# Altium footprint library EG_robot.PcbLib: 15 footprints
Each footprint in its own frame and in the unit in brackets; x right, y up, seen from the top. Pads: shape width x height; smd on the part's side, far side on the other; paste and mask are expansions set on the pad; w line width, h text height; cw(c..) or ccw(c..) is an arc to the next point about the centre after c.
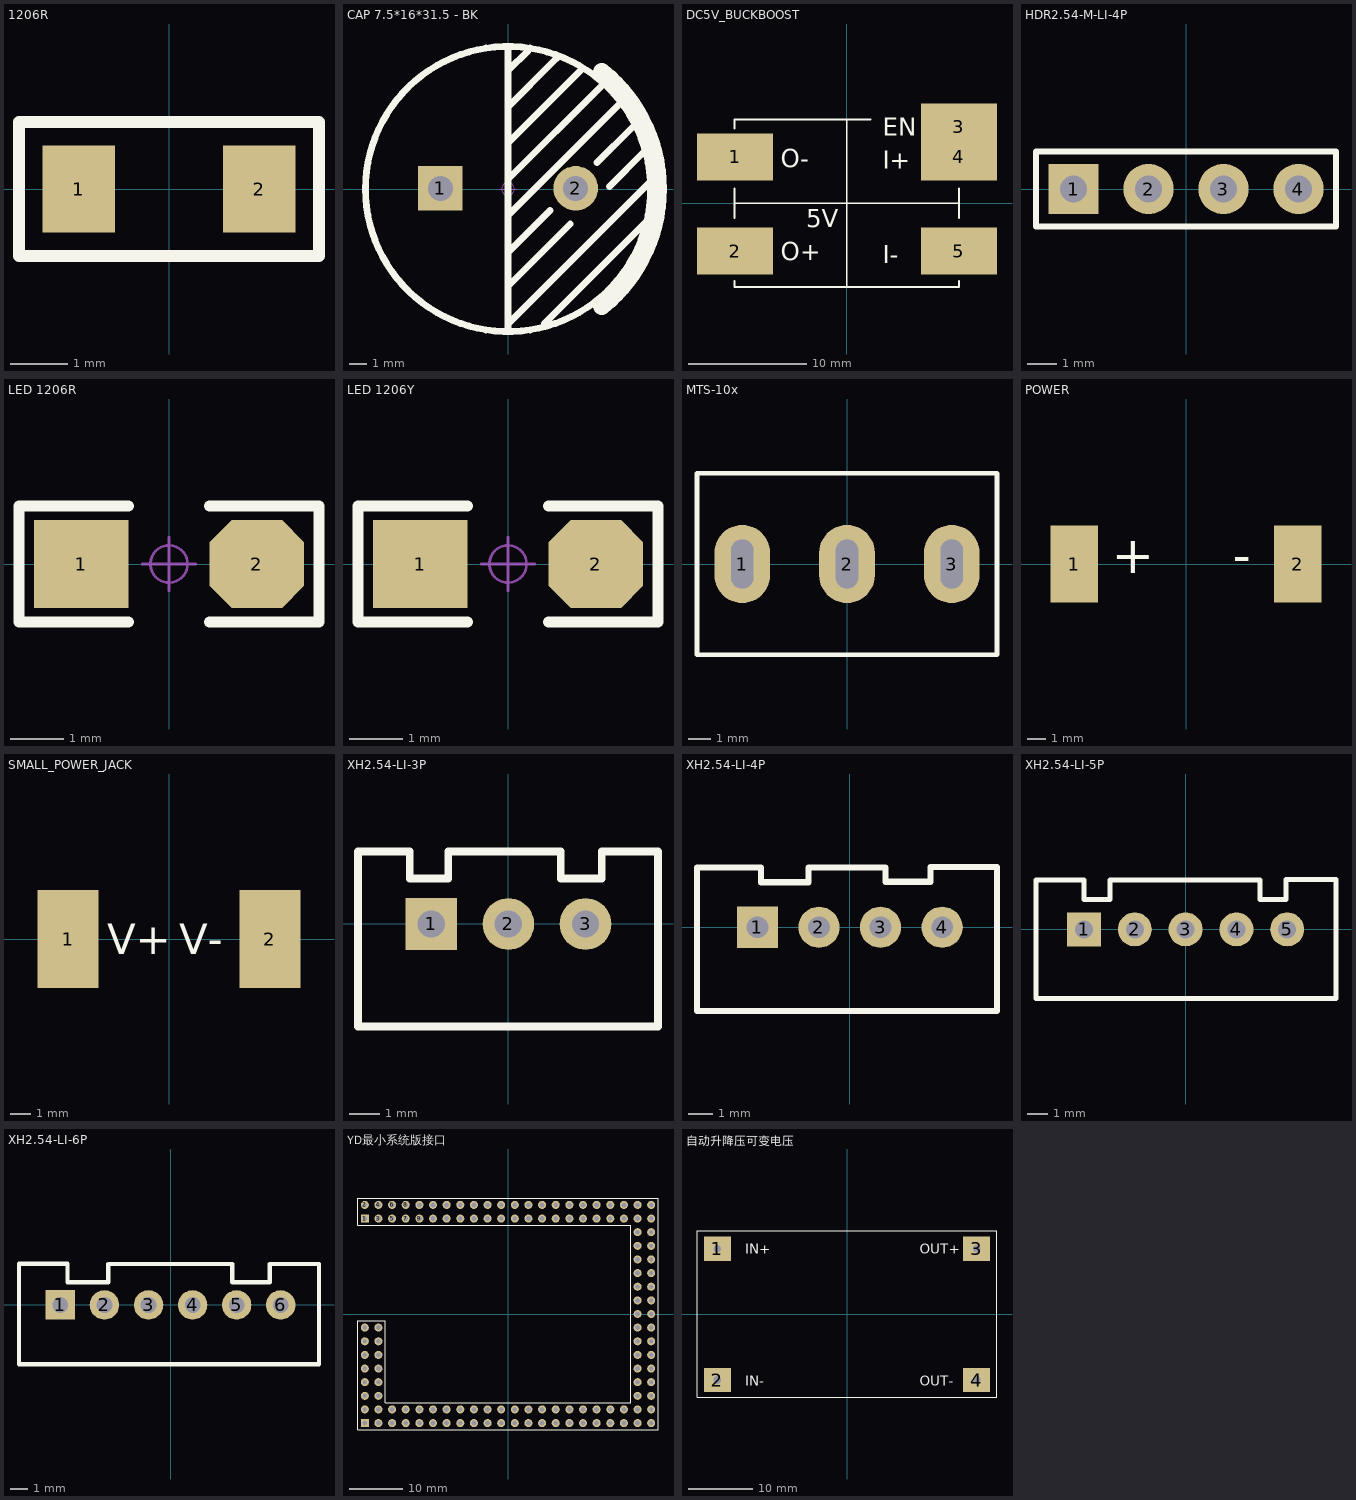
[diagram p0: the footprints below, top view; thin cyan lines are the x and y axes]

## 1206R [mil]
pads (2):
  rect 50x60 smd: 1(-62,0) 2(62,0)
Top Overlay:
  lines w8: -103,-46 40,-46 103,-46 103,46 40,46 -103,46 -103,-46
3D body "R1206.STEP": height 23.62, standoff 0, extent -63.98,-32.49 62,30.51

## CAP 7.5*16*31.5 - BK [mm] "脚距7.5mm直径16mm高度31.5mm"
pads (2):
  rect 2.5x2.5 hole 1.4: 1(-3.8,0.038)
  round 2.5 hole 1.4: 2(3.8,0.038)
Top Overlay:
  circle w0.381: c0,0 r8
  lines w0.381: 0,-7.963 0,7.963 ; 0,-7.582 8.001,0.419 ; 0,-3.556 2.349,-1.206 ; 0,-1.486 6.223,4.737 ; 0,0.546 5.296,5.842 ; 0,2.578 4.064,6.642 ; 0,4.61 2.54,7.15 2.769,7.379 ; 0,6.642 1.143,7.785 ; 0.127,-5.334 3.492,-1.968 ; 2.032,-7.582 6.604,-3.01 7.81,-1.803 ; 4.997,1.48 6.972,3.454 ; 5.696,0.146 7.62,2.07
  lines w1: 5.259,-6.574 ccw(c0,0) 5.259,6.574
Mechanical 15:
  circle w0.05: c0,0 r0.35
  lines w0.05: -0.5,0 0.5,0 ; 0,-0.5 0,0.5
3D body "CAP 7.5X16X31.5.STEP": height 31.54, standoff -3.37, extent -8,-7.998 8.01,7.998

## DC5V_BUCKBOOST [mm] "自动升降压稳压模块"
pads (5):
  rect 6.47x4 smd: 1(-9.475,3.936) 2(-9.475,-4.064) 3(9.525,6.476) 4(9.525,3.936) 5(9.525,-4.064)
Top Overlay:
  lines w0.152: -9.525,-6.604 -9.525,-7.112 0,-7.112 ; -9.525,-1.27 -9.525,0 ; -9.525,1.27 -9.525,0 ; -9.525,6.35 -9.525,7.112 0,7.112 ; 2.032,7.112 0,7.112 ; 9.525,-6.604 9.525,-7.112 0,-7.112 ; 9.525,-1.27 9.525,0 ; 9.525,1.27 9.525,0 ; -9.525,0 0,0 ; 0,-7.112 0,0 ; 0,0 9.525,0 ; 0,0 0,7.112
  text "I-" at 3.048,-5.08 h1.52
  text "EN" at 3.048,5.715 h1.52
  text "O+" at -5.588,-4.826 h1.52
  text "O-" at -5.588,3.048 h1.52
  text "I+" at 3.048,2.921 h1.52
  text "5V" at -3.429,-2.032 h1.52

## HDR2.54-M-LI-4P [mm] "排母，4脚"
pads (4):
  rect 1.7x1.7 hole 0.9: 1(-3.81,0)
  round 1.7 hole 0.9: 2(-1.27,0) 3(1.27,0) 4(3.81,0)
Top Overlay:
  lines w0.2: -5.08,-1.27 -5.08,1.27 5.08,1.27 5.08,-1.27 -5.08,-1.27
3D body "HDR2.54-1P_M.STEP": height 8.5, standoff -3, extent -2.54,-1.27 0,1.27
3D body "HDR2.54-1P_M.STEP": height 8.5, standoff -3, extent -5.08,-1.27 -2.54,1.27
3D body "HDR2.54-1P_M.STEP": height 8.5, standoff -3, extent 2.54,-1.27 5.08,1.27
3D body "HDR2.54-1P_M.STEP": height 8.5, standoff -3, extent 0,-1.27 2.54,1.27

## LED 1206R [mil] "红色1206LED"
pads (2):
  rect 70x65 smd: 1(-65,0)
  oct 70x65 smd: 2(65,0)
Top Overlay:
  lines w8: -30,-43 -111,-43 -111,43 -109,43 -30,43 ; 30,-43 109,-43 ; 30,43 111,43 111,-43
Mechanical 15:
  circle w1.97: c0,0 r13.78
  lines w1.97: -19.68,0 19.68,0 ; 0,-19.68 0,19.68
3D body "LED 1206玻璃罩.ST": height 0, standoff 0, extent 0,0 0,0
3D body "LED 1206-R.STEP": height 35.58, standoff -0.16, extent -63.03,-31.54 63.03,31.54

## LED 1206Y [mil] "黄色1206LED"
pads (2):
  rect 70x65 smd: 1(-65,0)
  oct 70x65 smd: 2(65,0)
Top Overlay:
  lines w8: -30,-43 -111,-43 -111,43 -109,43 -30,43 ; 30,-43 109,-43 ; 30,43 111,43 111,-43
Mechanical 15:
  circle w1.97: c0,0 r13.78
  lines w1.97: -19.68,0 19.68,0 ; 0,-19.68 0,19.68
3D body "LED 1206-Y.STEP": height 35.58, standoff -0.16, extent -63.03,-31.54 63.03,31.54
3D body "LED 1206玻璃罩.ST": height 0, standoff 0, extent 0,0 0,0

## MTS-10x [mm] "MTS10系列3脚扭子开关"
pads (3):
  oval 2.5x3.5 hole 1 slot 2.2 at 90 deg unplated: 1(-4.7,0) 2(0,0) 3(4.7,0)
Top Overlay:
  lines w0.203: -6.731,-4.064 -6.731,4.064 6.731,4.064 6.731,-4.064 -6.731,-4.064
3D body "MTS-102.STEP": height 30.47, standoff -2.95, extent -6.6,-3.95 6.6,3.95

## POWER [mm] "POWER COM"
pads (2):
  rect 2.54x4.11 smd: 1(-6,0) 2(6,0)
Top Overlay:
  text "-" at 2.5,-0.5 h2
  text "+" at -4,-0.5 h2

## SMALL_POWER_JACK [mm]
pads (2):
  rect 3x4.854 smd: 1(-5,0) 2(5,0)
Top Overlay:
  text "V+" at -3.048,-0.762 h1.52
  text "V-" at 0.508,-0.762 h1.52

## XH2.54-LI-3P [mm] "接插件，3P"
pads (3):
  rect 1.7x1.7 hole 0.9: 1(-2.54,0)
  round 1.7 hole 0.9: 2(0,0) 3(2.54,0)
Top Overlay:
  lines w0.254: -4.953,-3.378 -4.953,2.388 -3.251,2.388 -3.251,1.5 -1.981,1.5 -1.981,2.388 1.727,2.388 1.727,1.5 3.073,1.5 3.073,2.388 4.928,2.388 4.928,-3.378 -4.953,-3.378
3D body "XH2.54-3P.STEP": height 7.03, standoff -2.47, extent -5.04,-3.3 5.04,2.4

## XH2.54-LI-4P [mm] "接插件，4P"
pads (4):
  rect 1.7x1.7 hole 0.9: 1(-3.81,0)
  round 1.7 hole 0.9: 2(-1.27,0) 3(1.27,0) 4(3.81,0)
Top Overlay:
  lines w0.254: -6.299,-3.454 6.071,-3.454 6.071,2.489 3.327,2.489 3.327,1.88 1.473,1.88 1.473,2.464 -1.702,2.464 -1.702,1.854 -3.658,1.854 -3.658,2.464 -6.299,2.464 -6.299,-3.454
3D body "XH2.54-4P.STEP": height 7.03, standoff -2.47, extent -6.31,-3.3 6.31,2.4

## XH2.54-LI-5P [mm] "接插件，5P"
pads (5):
  rect 1.7x1.7 hole 0.9: 1(-5.08,0)
  round 1.7 hole 0.9: 2(-2.54,0) 3(0,0) 4(2.54,0) 5(5.08,0)
Top Overlay:
  lines w0.254: -3.78,2.438 -3.78,1.5 -5.08,1.5 -5.08,2.464 -7.48,2.464 -7.48,-3.454 7.52,-3.454 7.52,2.489 5.02,2.489 5.02,1.5 3.72,1.5 3.72,2.464 -3.78,2.464
3D body "XH2.54-5P.STEP": height 7.03, standoff -2.47, extent -7.58,-3.3 7.58,2.4

## XH2.54-LI-6P [mm] "接插件，6P"
pads (6):
  rect 1.7x1.7 hole 0.9: 1(-6.35,0)
  round 1.7 hole 0.9: 2(-3.81,0) 3(-1.27,0) 4(1.27,0) 5(3.81,0) 6(6.35,0)
Top Overlay:
  lines w0.254: -8.738,-3.429 -8.738,2.388 -5.944,2.388 -5.944,1.321 -3.581,1.321 -3.581,2.362 3.556,2.362 3.556,1.321 5.715,1.321 5.715,2.362 8.56,2.362 8.56,-3.429 -8.738,-3.429
3D body "XH2.54-6P.STEP": height 7.03, standoff -2.47, extent -8.85,-3.3 8.85,2.4

## YD最小系统版接口 [mm]
pads (126):
  rect 1.5x1.5 hole 0.9: 1(-26.67,17.78) 113(-26.67,-20.32)
  round 1.5 hole 0.9: 2(-26.67,20.32) 3(-24.13,17.78) 4(-24.13,20.32) 5(-21.59,17.78) 6(-21.59,20.32) 7(-19.05,17.78) 8(-19.05,20.32) 9(-16.51,17.78) 10(-16.51,20.32) 11(-13.97,17.78) 12(-13.97,20.32) 13(-11.43,17.78) 14(-11.43,20.32) 15(-8.89,17.78) 16(-8.89,20.32) 17(-6.35,17.78) 18(-6.35,20.32) 19(-3.81,17.78) 20(-3.81,20.32) 21(-1.27,17.78) 22(-1.27,20.32) 23(1.27,17.78) 24(1.27,20.32) 25(3.81,17.78) 26(3.81,20.32) 27(6.35,17.78) 28(6.35,20.32) 29(8.89,17.78) 30(8.89,20.32) 31(11.43,17.78) 32(11.43,20.32) 33(13.97,17.78) 34(13.97,20.32) 35(16.51,17.78) 36(16.51,20.32) 37(19.05,17.78) 38(19.05,20.32) 39(21.59,17.78) 40(21.59,20.32) 41(24.13,17.78) 42(24.13,20.32) 43(26.67,17.78) 44(26.67,20.32) 45(24.13,15.24) 46(26.67,15.24) 47(24.13,12.7) 48(26.67,12.7) 49(24.13,10.16) 50(26.67,10.16) 51(24.13,7.62) 52(26.67,7.62) 53(24.13,5.08) 54(26.67,5.08) 55(24.13,2.54) 56(26.67,2.54) 57(24.13,0) 58(26.67,0) 59(24.13,-2.54) 60(26.67,-2.54) 61(24.13,-5.08) 62(26.67,-5.08) 63(24.13,-7.62) 64(26.67,-7.62) 65(24.13,-10.16) 66(26.67,-10.16) 67(24.13,-12.7) 68(26.67,-12.7) 69(24.13,-15.24) 70(26.67,-15.24) 71(24.13,-17.78) 72(26.67,-17.78) 73(24.13,-20.32) 74(26.67,-20.32) 75(21.59,-20.32) 76(21.59,-17.78) 77(19.05,-20.32) 78(19.05,-17.78) 79(16.51,-20.32) 80(16.51,-17.78) 81(13.97,-20.32) 82(13.97,-17.78) 83(11.43,-20.32) 84(11.43,-17.78) 85(8.89,-20.32) 86(8.89,-17.78) 87(6.35,-20.32) 88(6.35,-17.78) 89(3.81,-20.32) 90(3.81,-17.78) 91(1.27,-20.32) 92(1.27,-17.78) 93(-1.27,-20.32) 94(-1.27,-17.78) 95(-3.81,-20.32) 96(-3.81,-17.78) 97(-6.35,-20.32) 98(-6.35,-17.78) 99(-8.89,-20.32) 100(-8.89,-17.78) 101(-11.43,-20.32) 102(-11.43,-17.78) 103(-13.97,-20.32) 104(-13.97,-17.78) 105(-16.51,-20.32) 106(-16.51,-17.78) 107(-19.05,-20.32) 108(-19.05,-17.78) 109(-21.59,-20.32) 110(-21.59,-17.78) 111(-24.13,-20.32) 112(-24.13,-17.78) 114(-26.67,-17.78) 115(-26.67,-15.24) 116(-24.13,-15.24) 117(-26.67,-12.7) 118(-24.13,-12.7) 119(-26.67,-10.16) 120(-24.13,-10.16) 121(-26.67,-7.62) 122(-24.13,-7.62) 123(-26.67,-5.08) 124(-24.13,-5.08) 125(-26.67,-2.54) 126(-24.13,-2.54)
Top Overlay:
  lines w0.2: 22.86,-16.51 22.86,16.51 -27.94,16.51 -27.94,21.59 27.94,21.59 27.94,16.51 27.94,-16.51 27.94,-21.59 -27.94,-21.59 -27.94,-16.51 -27.94,-1.27 -22.86,-1.27 -22.86,-16.51 22.885,-16.51

## 自动升降压可变电压 [mm]
pads (4):
  rect 4.23x3.79 hole 1.2: 1(-20.193,10.16) 2(-20.193,-10.287) 3(20.193,10.16) 4(20.193,-10.287)
Top Overlay:
  lines w0.152: -23.368,-12.954 -23.368,12.954 0,12.954 23.368,12.954 23.368,-12.954 0,-12.954 -23.368,-12.954
  text "OUT-" at 11.303,-11.176 h1.52
  text "OUT+" at 11.303,9.398 h1.52
  text "IN+" at -15.875,9.398 h1.52
  text "IN-" at -15.875,-11.176 h1.52